# Altium schematic symbol library SCH - POWER - SWITCHMODE - TI TPS54561-Q1DPR.SchLib: 1 symbol
Pins are listed as number, name and electrical type; pins without a type are passive.

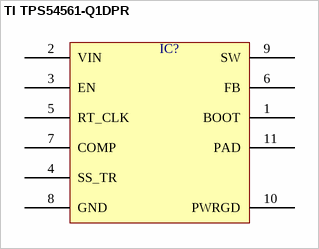
[diagram p0: symbol TI TPS54561-Q1DPR]

## TI TPS54561-Q1DPR
designator IC?  (value not drawn)
pins: 1 BOOT, 2 VIN, 3 EN, 4 SS_TR, 5 RT_CLK, 6 FB, 7 COMP, 8 GND, 9 SW, 10 PWRGD, 11 PAD